# EAGLE library part CONN,2X6 (library QuantumOptics)
Connector, 2 rows of 6 pins, such as Sullins GRPB062MWCN-RC (0.050"). Need 0.006" (0.152mm) trace and space.
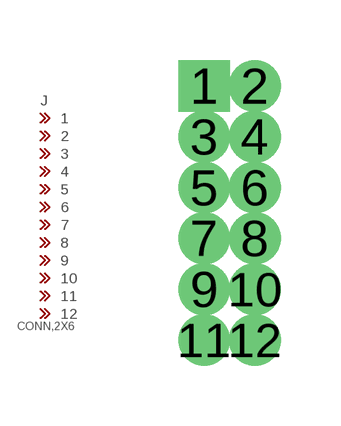
[diagram p203: symbol with the pads of CONN,2X6(50MIL); footprint CONN,2X6(50MIL)]

Designator prefix J

## CONN,2X6-RA  [CONN,2X6(50MIL)]
1  1
2  2
3  3
4  4
5  5
6  6
7  7
8  8
9  9
10  10
11  11
12  12

## Footprint CONN,2X6(50MIL) (pad centres in mm)
Connector, 2 rows of 6 pins, straight or right angle, such as Sullins GRPB062MWCN-RC (0.050"). Need 6m" trace and space.
drill 0.787 pad 1.118 square: 1 0,0
drill 0.787 pad 1.118: 2 1.27,0; 3 0,-1.27; 4 1.27,-1.27; 5 0,-2.54; 6 1.27,-2.54; 7 0,-3.81; 8 1.27,-3.81; 9 0,-5.08; 10 1.27,-5.08; 11 0,-6.35; 12 1.27,-6.35